# Altium footprint library PcbLib1_MotherBoard.PcbLib: 21 footprints (part 2 of 2)
Each footprint in its own frame and in the unit in brackets; x right, y up, seen from the top. Pads: shape width x height; smd on the part's side, far side on the other; paste and mask are expansions set on the pad; w line width, h text height; cw(c..) or ccw(c..) is an arc to the next point about the centre after c.
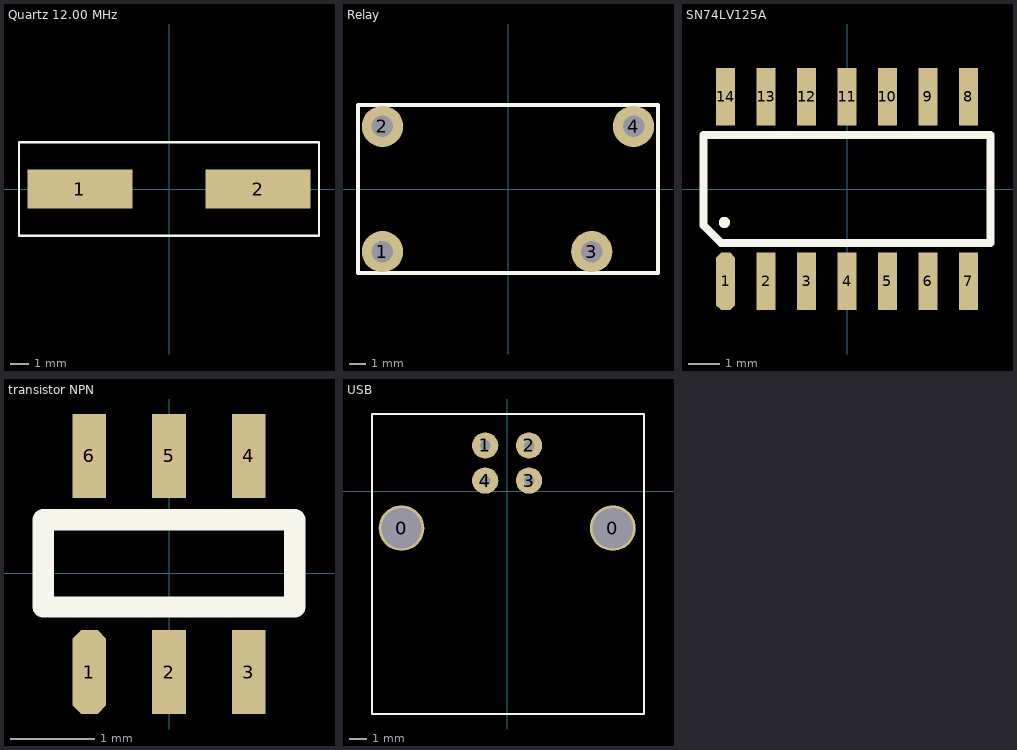
[diagram p1: the footprints below, top view; thin cyan lines are the x and y axes]

## Quartz 12.00 MHz [mm] "Quartz 12.000 MHz"
pads (2):
  rect 5.6x2.1 smd: 1(-4.75,0) 2(4.75,0)
Top Overlay:
  lines w0.127: -8,-2.5 -8,2.5 8,2.5 8,-2.5 -8,-2.5
3D body: height 4, standoff 0, extent -6.65,-2.425 6.65,2.425

## Relay [mm] "Relay OJE-SS-103HM,000"
pads (4):
  round 2.5 hole 1.3: 1(-7.62,-3.8) 2(-7.62,3.8) 3(5.08,-3.8) 4(7.62,3.8)
Top Overlay:
  lines w0.254: -9.1,-5.1 -9.1,5.1 9.1,5.1 9.1,-5.1 -9.1,-5.1
3D body: height 14.6, standoff -4.1, extent -8.94,-5.02 9.26,5.18

## SN74LV125A [mm] "SN74LV125A"
pads (14):
  oct 0.6x1.8 smd: 1(-3.81,-2.9)
  rect 0.6x1.8 smd: 2(-2.54,-2.9) 3(-1.27,-2.9) 4(0,-2.9) 5(1.27,-2.9) 6(2.54,-2.9) 7(3.81,-2.9) 8(3.81,2.9) 9(2.54,2.9) 10(1.27,2.9) 11(0,2.9) 12(-1.27,2.9) 13(-2.54,2.9) 14(-3.81,2.9)
Top Overlay:
  circle w0.254: c-3.85,-1.05 r0.05
  lines w0.254: -4.5,-1.15 -4.5,1.7 4.5,1.7 4.5,-1.7 -3.95,-1.7 -4.5,-1.15
3D body: height 1.75, standoff -0.01, extent -4.385,-2.999 4.365,3.2

## transistor NPN [mm] "Transistor NPN SOT457"
pads (6):
  oct 0.4x1 smd: 1(-0.95,-1.175)
  rect 0.4x1 smd: 2(0,-1.175) 3(0.95,-1.175) 4(0.95,1.4) 5(0,1.4) 6(-0.95,1.4)
Top Overlay:
  lines w0.254: -1.5,-0.4 1.5,-0.4 1.5,0.64 -1.5,0.64 -1.5,-0.4
3D body: height 1.2, standoff 0.2, extent -1.5,-1.27 1.5,1.53

## USB [mm] "USB-B-S-RA"
pads (6):
  round 2.6 hole 2.3: 0(-6.02,-2.105) 0(6.02,-2.105)
  round 1.5 hole 0.6: 1(-1.25,2.605) 2(1.25,2.605) 3(1.25,0.605) 4(-1.25,0.605)
Top Overlay:
  lines w0.127: -7.7,-12.7 -7.7,4.4 7.8,4.4 7.8,-12.7 -7.7,-12.7
3D body: height 10.78, standoff -3.22, extent -7.249,-12.345 7.35,4.155